# Altium integrated library NSC Interface.IntLib: 1288 symbols (part 7 of 45)
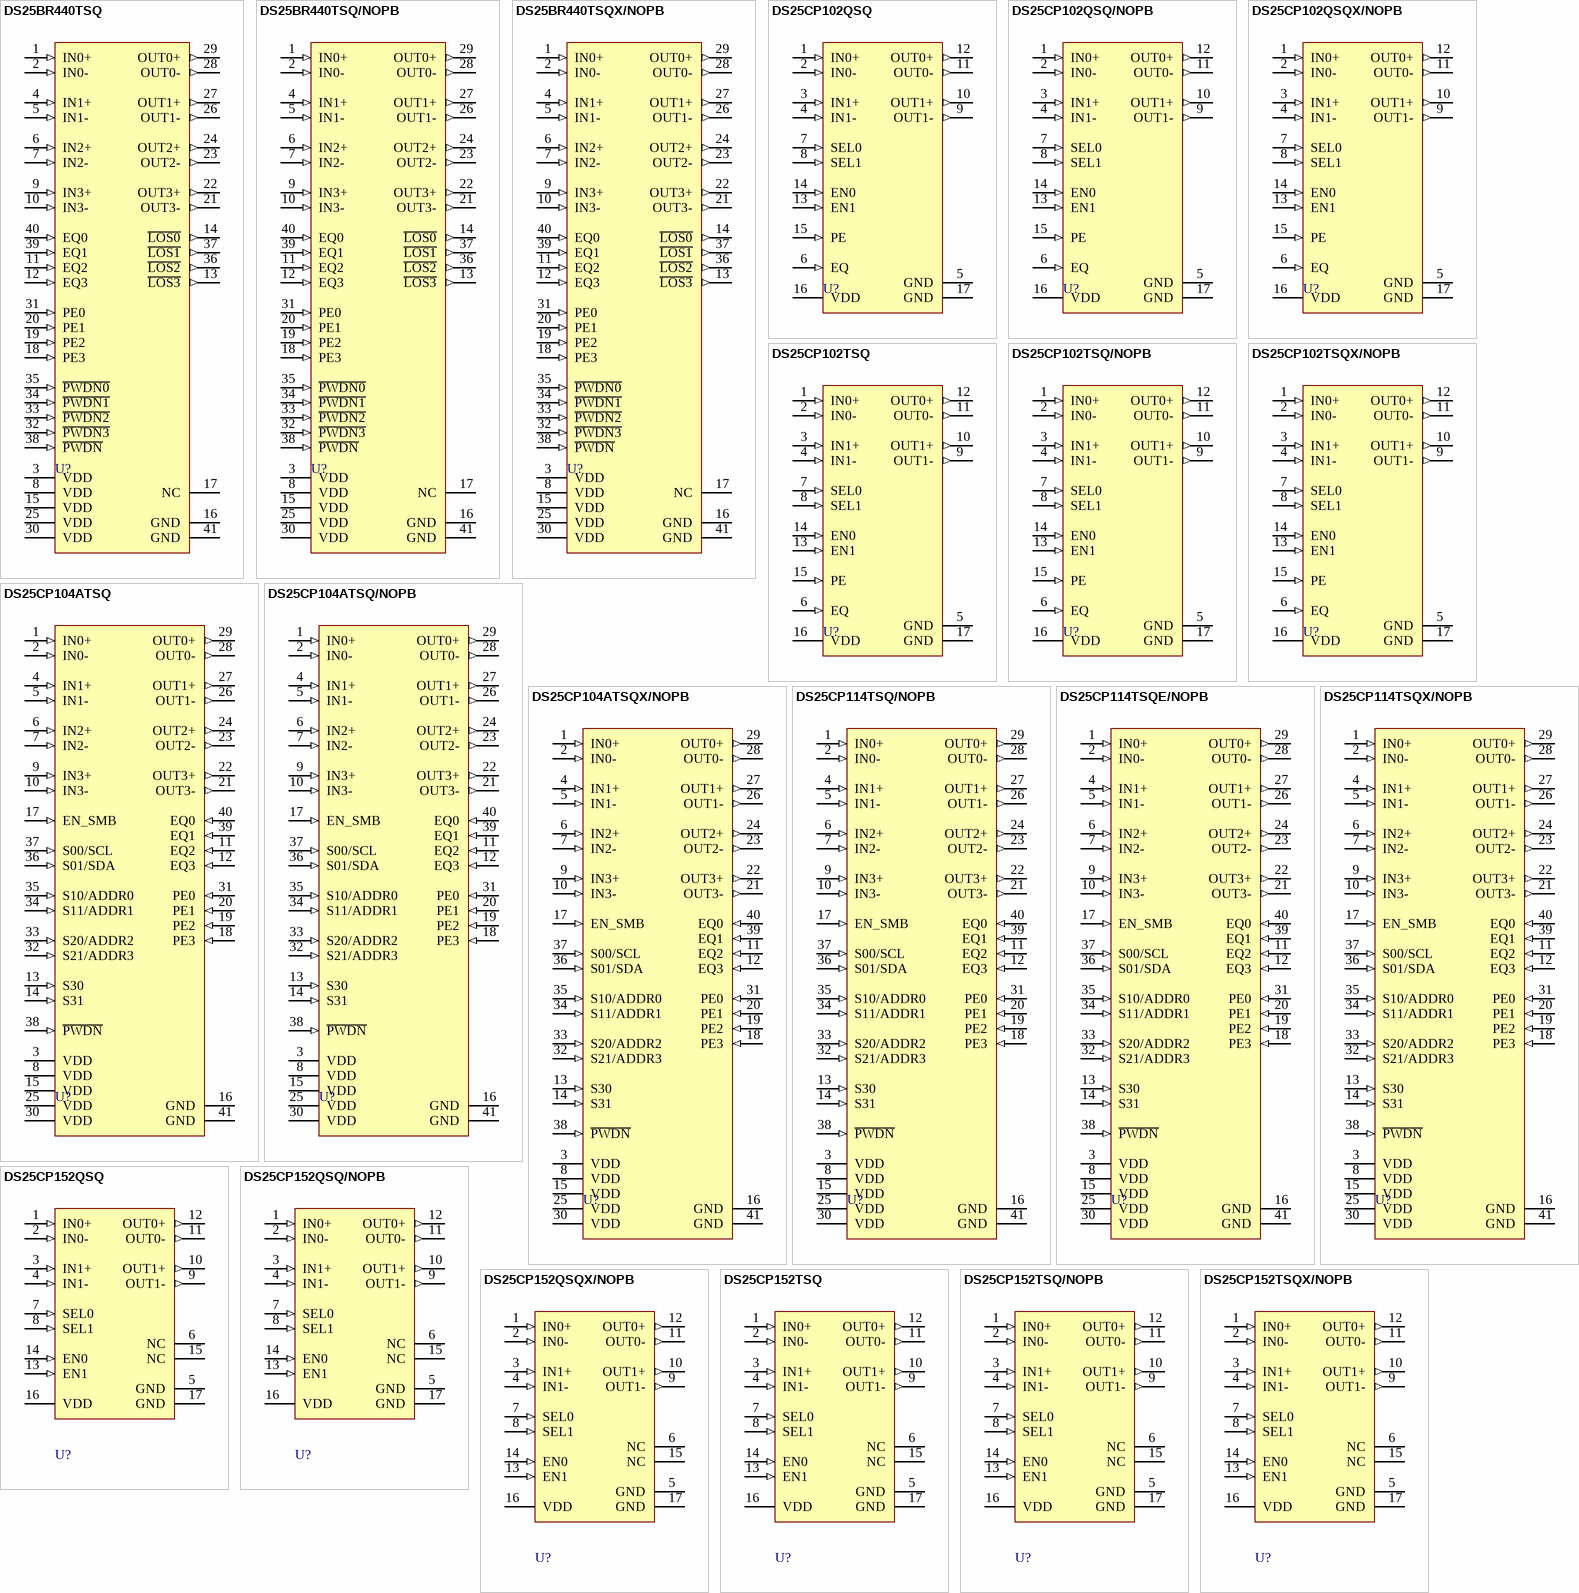
[diagram p118: symbols DS25BR440TSQ to DS25CP152TSQX/NOPB]

## DS25CP114TSQX/NOPB
designator U?
3.125 Gbps 4x4 LVDS Crosspoint Switch with Transmit Pre-Emphasis and Receive Equalization, 40 pin LLP; PartNumber: DS25CP114TSQX/NOPB; Manufacturer: National Semiconductor; PackageTopMarking: NS*UZXYTTE#*2CP114SQ; PowerWise: Y; CompType: Interface IC; Published: 16-Nov-2010; DatasheetVersion: May-2009; PackageVersion: revB, Mar-2004; PackageReference: SQA40A; Publisher: Altium Limited; PackageDescription: LLP, Plastic, Quad, 6 x 6 x 0.8mm Body, 40 Lead, 0.5mm Pitch, No Pullback; Supplier 1: Digi-Key; Supplier Part Number 1: DS25CP114TSQX/NOPB-ND; RoHS: Y; PinCount: 40; ComponentLink1Description: DS25CP114 Datasheet; ComponentLink1URL: http://www.national.com/ds/DS/DS25CP114.pdf; ComponentLink2Description: DS25CP114 Web Page; ComponentLink2URL: http://www.national.com/pf/DS/DS25CP114.html; ComponentLink3Description: SQA40A Package Page; ComponentLink3URL: http://www.national.com/packaging/folders/sqa40a.html
footprint SQA40A (QFN, 40-Leads, Body 6x6mm, Pitch 0.5mm, NSC Recommended)
pins: 1 IN0+ (in), 2 IN0- (in), 3 VDD (power), 4 IN1+ (in), 5 IN1- (in), 6 IN2+ (in), 7 IN2- (in), 8 VDD (power), 9 IN3+ (in), 10 IN3- (in), 11 EQ2 (in), 12 EQ3 (in), 13 S30 (in), 14 S31 (in), 15 VDD (power), 16 GND (power), 17 EN_SMB (in), 18 PE3 (in), 19 PE2 (in), 20 PE1 (in), 21 OUT3- (out), 22 OUT3+ (out), 23 OUT2- (out), 24 OUT2+ (out), 25 VDD (power), 26 OUT1- (out), 27 OUT1+ (out), 28 OUT0- (out), 29 OUT0+ (out), 30 VDD (power), 31 PE0 (in), 32 S21/ADDR3 (in), 33 S20/ADDR2 (in), 34 S11/ADDR1 (in), 35 S10/ADDR0 (in), 36 S01/SDA (in), 37 S00/SCL (in), 38 ~{PWDN} (in), 39 EQ1 (in), 40 EQ0 (in), 41 GND (power)

## DS25CP152QSQ
designator U?
Automotive 3.125 Gbps LVDS 2x2 Crosspoint Switch, 16-pin LLP; PartNumber: DS25CP152QSQ; Manufacturer: National Semiconductor; PackageTopMarking: NS*UZXYTT*2C152QS; PowerWise: Y; CompType: Interface IC; Published: 4-Dec-2008; DatasheetVersion: Jul-2008; PackageVersion: revA, Oct-2003; PackageReference: SQA16A; Publisher: Altium Limited; PackageDescription: LLP, Plastic, Quad, 4 x 4 x 0.8mm Body, 16 Lead, 0.5mm Pitch, No Pullback; RoHS: Y; PinCount: 16; ComponentLink1Description: DS25CP152Q Datasheet; ComponentLink1URL: http://www.national.com/ds/DS/DS25CP152Q.pdf; ComponentLink2Description: DS25CP152Q Web Page; ComponentLink2URL: http://www.national.com/pf/DS/DS25CP152Q.html; ComponentLink3Description: SQA16A Package Page; ComponentLink3URL: http://www.national.com/packaging/folders/sqa16a.html
footprint SQA16A (QFN, 16-Leads, Body 4x4mm, Pitch 0.5mm, NSC Recommended)
pins: 1 IN0+ (in), 2 IN0- (in), 3 IN1+ (in), 4 IN1- (in), 5 GND (power), 6 NC, 7 SEL0 (in), 8 SEL1 (in), 9 OUT1- (out), 10 OUT1+ (out), 11 OUT0- (out), 12 OUT0+ (out), 13 EN1 (in), 14 EN0 (in), 15 NC, 16 VDD (power), 17 GND (power)

## DS25CP152QSQ/NOPB
designator U?
Automotive 3.125 Gbps LVDS 2x2 Crosspoint Switch, 16-pin LLP, Pb-Free; PartNumber: DS25CP152QSQ/NOPB; Manufacturer: National Semiconductor; PackageTopMarking: NS*UZXYTT*2C152QS; PowerWise: Y; CompType: Interface IC; Published: 1-Mar-2010; DatasheetVersion: Jul-2008; PackageVersion: revA, Oct-2003; PackageReference: SQA16A; Publisher: Altium Limited; PackageDescription: LLP, Plastic, Quad, 4 x 4 x 0.8mm Body, 16 Lead, 0.5mm Pitch, No Pullback; Supplier 1: Digi-Key; Supplier Part Number 1: DS25CP152QSQTR-ND; Supplier 2: Digi-Key; Supplier Part Number 2: DS25CP152QSQCT-ND; Supplier 3: Digi-Key; Supplier Part Number 3: DS25CP152QSQDKR-ND; RoHS: Y; PinCount: 16; ComponentLink1Description: DS25CP152Q Datasheet; ComponentLink1URL: http://www.national.com/ds/DS/DS25CP152Q.pdf; ComponentLink2Description: DS25CP152Q Web Page; ComponentLink2URL: http://www.national.com/pf/DS/DS25CP152Q.html; ComponentLink3Description: SQA16A Package Page; ComponentLink3URL: http://www.national.com/packaging/folders/sqa16a.html
footprint SQA16A (QFN, 16-Leads, Body 4x4mm, Pitch 0.5mm, NSC Recommended)
pins: 1 IN0+ (in), 2 IN0- (in), 3 IN1+ (in), 4 IN1- (in), 5 GND (power), 6 NC, 7 SEL0 (in), 8 SEL1 (in), 9 OUT1- (out), 10 OUT1+ (out), 11 OUT0- (out), 12 OUT0+ (out), 13 EN1 (in), 14 EN0 (in), 15 NC, 16 VDD (power), 17 GND (power)

## DS25CP152QSQX/NOPB
designator U?
Automotive 3.125 Gbps LVDS 2x2 Crosspoint Switch, 16-pin LLP, Pb-Free; PartNumber: DS25CP152QSQX/NOPB; Manufacturer: National Semiconductor; PackageTopMarking: NS*UZXYTT*2C152QS; PowerWise: Y; CompType: Interface IC; Published: 1-Mar-2010; DatasheetVersion: Jul-2008; PackageVersion: revA, Oct-2003; PackageReference: SQA16A; Publisher: Altium Limited; PackageDescription: LLP, Plastic, Quad, 4 x 4 x 0.8mm Body, 16 Lead, 0.5mm Pitch, No Pullback; Supplier 1: Digi-Key; Supplier Part Number 1: DS25CP152QSQX-ND; RoHS: Y; PinCount: 16; ComponentLink1Description: DS25CP152Q Datasheet; ComponentLink1URL: http://www.national.com/ds/DS/DS25CP152Q.pdf; ComponentLink2Description: DS25CP152Q Web Page; ComponentLink2URL: http://www.national.com/pf/DS/DS25CP152Q.html; ComponentLink3Description: SQA16A Package Page; ComponentLink3URL: http://www.national.com/packaging/folders/sqa16a.html
footprint SQA16A (QFN, 16-Leads, Body 4x4mm, Pitch 0.5mm, NSC Recommended)
pins: 1 IN0+ (in), 2 IN0- (in), 3 IN1+ (in), 4 IN1- (in), 5 GND (power), 6 NC, 7 SEL0 (in), 8 SEL1 (in), 9 OUT1- (out), 10 OUT1+ (out), 11 OUT0- (out), 12 OUT0+ (out), 13 EN1 (in), 14 EN0 (in), 15 NC, 16 VDD (power), 17 GND (power)

## DS25CP152TSQ
designator U?
3.125 Gbps LVDS 2x2 Crosspoint Switch, 16-pin LLP; PartNumber: DS25CP152TSQ; Manufacturer: National Semiconductor; PackageTopMarking: NS*UZXYTT*2C152SQ; PowerWise: Y; CompType: Interface IC; Published: 4-Dec-2008; DatasheetVersion: Mar-2009; PackageVersion: revA, Oct-2003; PackageReference: SQA16A; Publisher: Altium Limited; PackageDescription: LLP, Plastic, Quad, 4 x 4 x 0.8mm Body, 16 Lead, 0.5mm Pitch, No Pullback; Supplier 1: Farnell; Supplier Part Number 1: 1552433; RoHS: Y; PinCount: 16; ComponentLink1Description: DS25CP152 Datasheet; ComponentLink1URL: http://www.national.com/ds/DS/DS25CP152.pdf; ComponentLink2Description: DS25CP152 Web Page; ComponentLink2URL: http://www.national.com/pf/DS/DS25CP152.html; ComponentLink3Description: SQA16A Package Page; ComponentLink3URL: http://www.national.com/packaging/folders/sqa16a.html
footprint SQA16A (QFN, 16-Leads, Body 4x4mm, Pitch 0.5mm, NSC Recommended)
pins: 1 IN0+ (in), 2 IN0- (in), 3 IN1+ (in), 4 IN1- (in), 5 GND (power), 6 NC, 7 SEL0 (in), 8 SEL1 (in), 9 OUT1- (out), 10 OUT1+ (out), 11 OUT0- (out), 12 OUT0+ (out), 13 EN1 (in), 14 EN0 (in), 15 NC, 16 VDD (power), 17 GND (power)

## DS25CP152TSQ/NOPB
designator U?
3.125 Gbps LVDS 2x2 Crosspoint Switch, 16-pin LLP, Pb-Free; PartNumber: DS25CP152TSQ/NOPB; Manufacturer: National Semiconductor; PackageTopMarking: NS*UZXYTT*2C152SQ; PowerWise: Y; CompType: Interface IC; Published: 1-Mar-2010; DatasheetVersion: Mar-2009; PackageVersion: revA, Oct-2003; PackageReference: SQA16A; Publisher: Altium Limited; PackageDescription: LLP, Plastic, Quad, 4 x 4 x 0.8mm Body, 16 Lead, 0.5mm Pitch, No Pullback; Supplier 1: Digi-Key; Supplier Part Number 1: DS25CP152TSQTR-ND; Supplier 2: Digi-Key; Supplier Part Number 2: DS25CP152TSQCT-ND; Supplier 3: Digi-Key; Supplier Part Number 3: DS25CP152TSQDKR-ND; Supplier 4: Farnell; Supplier Part Number 4: 1555089; RoHS: Y; PinCount: 16; ComponentLink1Description: DS25CP152 Datasheet; ComponentLink1URL: http://www.national.com/ds/DS/DS25CP152.pdf; ComponentLink2Description: DS25CP152 Web Page; ComponentLink2URL: http://www.national.com/pf/DS/DS25CP152.html; ComponentLink3Description: SQA16A Package Page; ComponentLink3URL: http://www.national.com/packaging/folders/sqa16a.html
footprint SQA16A (QFN, 16-Leads, Body 4x4mm, Pitch 0.5mm, NSC Recommended)
pins: 1 IN0+ (in), 2 IN0- (in), 3 IN1+ (in), 4 IN1- (in), 5 GND (power), 6 NC, 7 SEL0 (in), 8 SEL1 (in), 9 OUT1- (out), 10 OUT1+ (out), 11 OUT0- (out), 12 OUT0+ (out), 13 EN1 (in), 14 EN0 (in), 15 NC, 16 VDD (power), 17 GND (power)

## DS25CP152TSQX/NOPB
designator U?
3.125 Gbps LVDS 2x2 Crosspoint Switch, 16-pin LLP, Pb-Free; PartNumber: DS25CP152TSQX/NOPB; Manufacturer: National Semiconductor; PackageTopMarking: NS*UZXYTT*2C152SQ; PowerWise: Y; CompType: Interface IC; Published: 1-Mar-2010; DatasheetVersion: Mar-2009; PackageVersion: revA, Oct-2003; PackageReference: SQA16A; Publisher: Altium Limited; PackageDescription: LLP, Plastic, Quad, 4 x 4 x 0.8mm Body, 16 Lead, 0.5mm Pitch, No Pullback; RoHS: Y; PinCount: 16; ComponentLink1Description: DS25CP152 Datasheet; ComponentLink1URL: http://www.national.com/ds/DS/DS25CP152.pdf; ComponentLink2Description: DS25CP152 Web Page; ComponentLink2URL: http://www.national.com/pf/DS/DS25CP152.html; ComponentLink3Description: SQA16A Package Page; ComponentLink3URL: http://www.national.com/packaging/folders/sqa16a.html
footprint SQA16A (QFN, 16-Leads, Body 4x4mm, Pitch 0.5mm, NSC Recommended)
pins: 1 IN0+ (in), 2 IN0- (in), 3 IN1+ (in), 4 IN1- (in), 5 GND (power), 6 NC, 7 SEL0 (in), 8 SEL1 (in), 9 OUT1- (out), 10 OUT1+ (out), 11 OUT0- (out), 12 OUT0+ (out), 13 EN1 (in), 14 EN0 (in), 15 NC, 16 VDD (power), 17 GND (power)

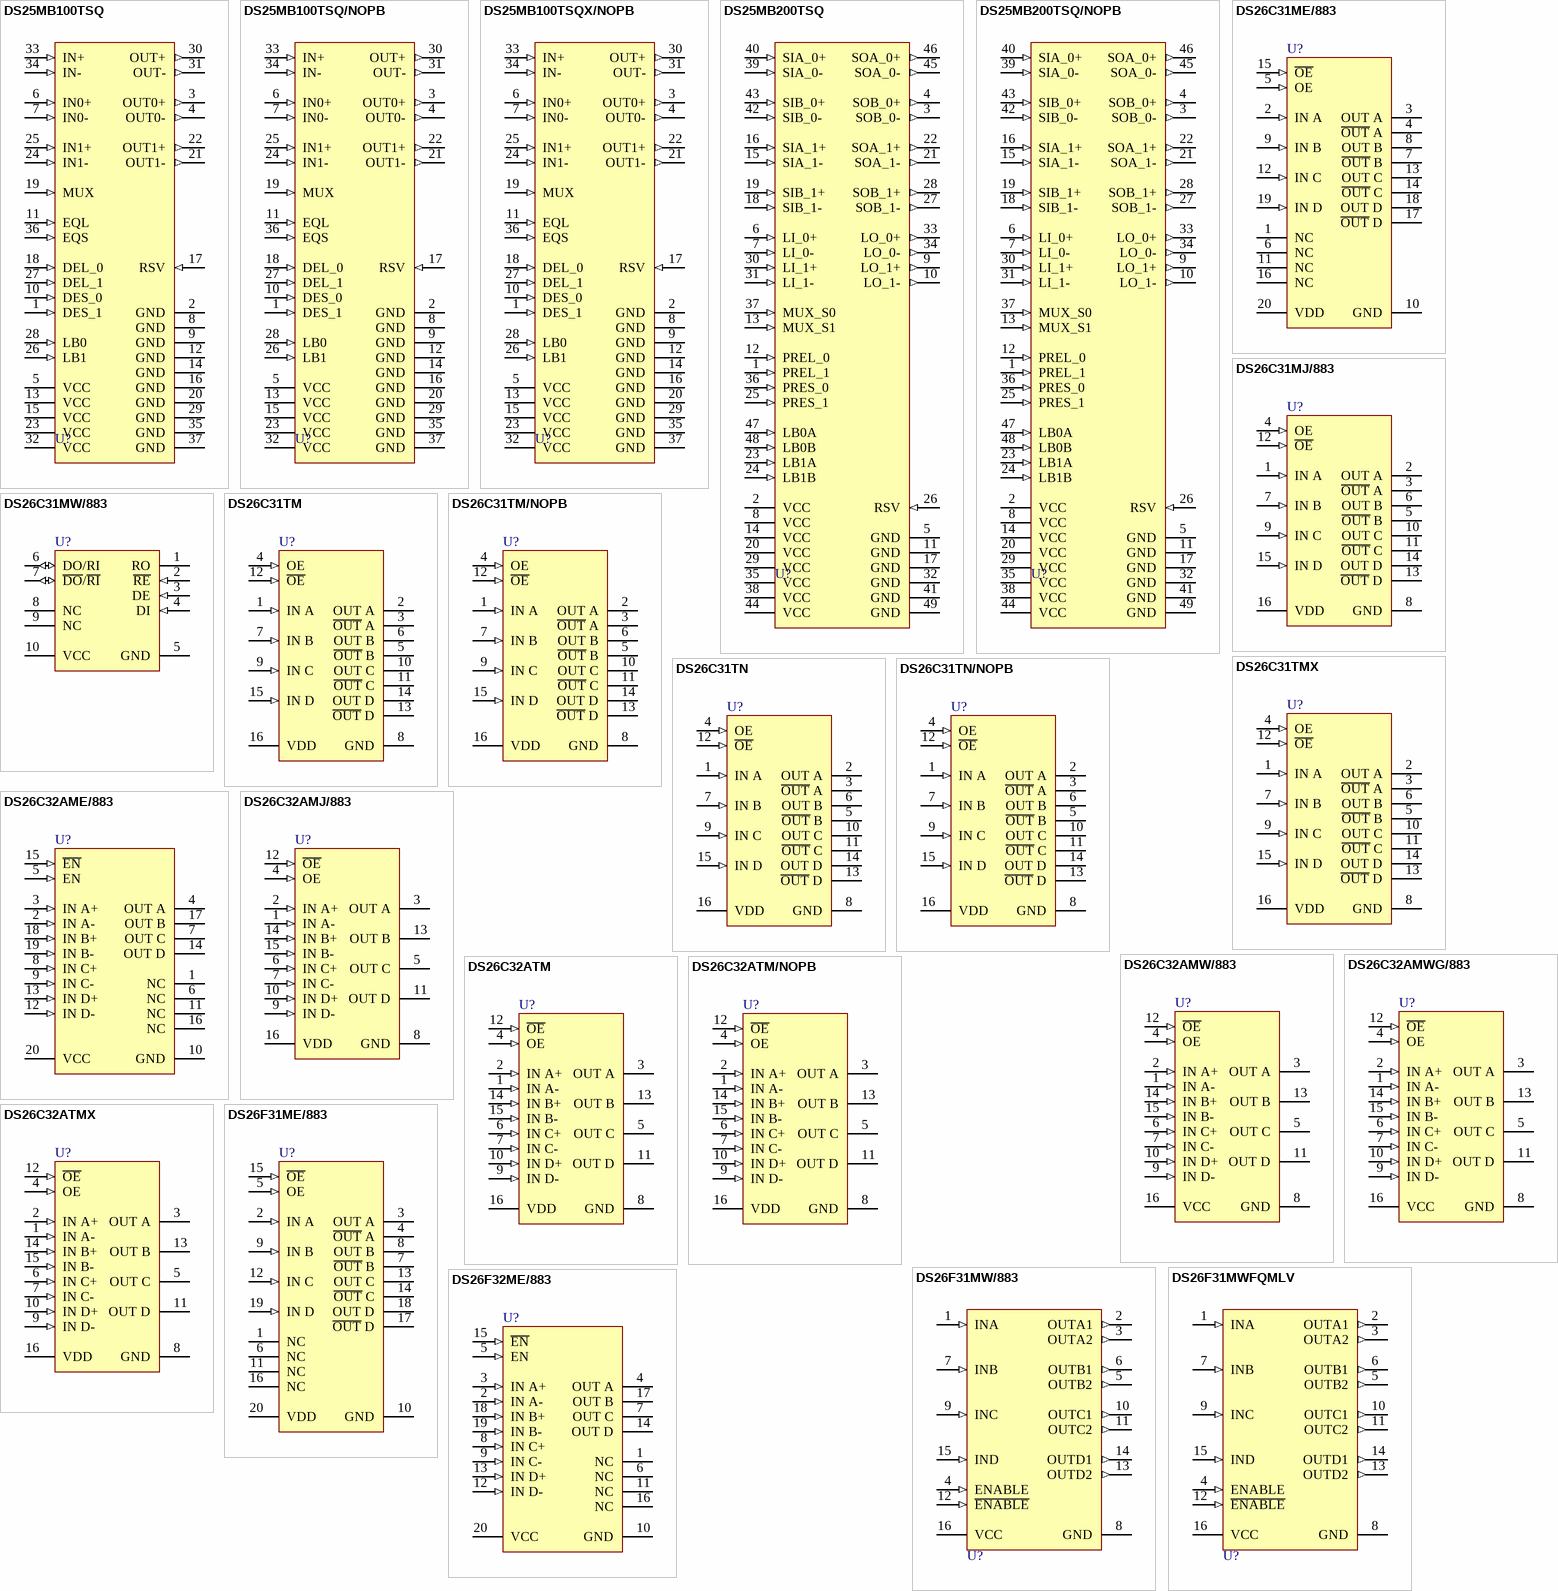
[diagram p18: symbols DS25MB100TSQ to DS26F32ME/883]

## DS25MB100TSQ
designator U?
2.5 Gbps 2:1/1:2 CML Mux/Buffer with Transmit De-Emphasis and Receive Equalization, 36-pin LLP; PartNumber: DS25MB100TSQ; Manufacturer: National Semiconductor; PackageTopMarking: NS*UZXYTT*25MB100; PowerWise: N; CompType: Interface IC; Published: 4-Dec-2008; DatasheetVersion: Feb-2009; PackageVersion: revA, Jun-2003; PackageReference: SQA36A; Publisher: Altium Limited; PackageDescription: LLP, Plastic, Quad, 6 x 6 x 0.8mm Body, 36 Lead, 0.5mm Pitch, No Pullback; RoHS: Y; PinCount: 36; ComponentLink1Description: DS25MB100 Datasheet; ComponentLink1URL: http://www.national.com/ds/DS/DS25MB100.pdf; ComponentLink2Description: DS25MB100 Web Page; ComponentLink2URL: http://www.national.com/pf/DS/DS25MB100.html; ComponentLink3Description: SQA36A Package Page; ComponentLink3URL: http://www.national.com/packaging/folders/sqa36a.html
footprint SQA36A (QFN, 36-Leads, Body 6x6mm, Pitch 0.5mm, NSC Recommended)
pins: 1 DES_1 (in), 2 GND (power), 3 OUT0+ (out), 4 OUT0- (out), 5 VCC (power), 6 IN0+ (in), 7 IN0- (in), 8 GND (power), 9 GND (power), 10 DES_0 (in), 11 EQL (in), 12 GND (power), 13 VCC (power), 14 GND (power), 15 VCC (power), 16 GND (power), 17 RSV (in), 18 DEL_0 (in), 19 MUX (in), 20 GND (power), 21 OUT1- (out), 22 OUT1+ (out), 23 VCC (power), 24 IN1- (in), 25 IN1+ (in), 26 LB1 (in), 27 DEL_1 (in), 28 LB0 (in), 29 GND (power), 30 OUT+ (out), 31 OUT- (out), 32 VCC (power), 33 IN+ (in), 34 IN- (in), 35 GND (power), 36 EQS (in), 37 GND (power)

## DS25MB100TSQ/NOPB
designator U?
2.5 Gbps 2:1/1:2 CML Mux/Buffer with Transmit Pre-Emphasis and Receive Equalization, 36-pin LLP, Pb-Free; PartNumber: DS25MB100TSQ/NOPB; Manufacturer: National Semiconductor; PackageTopMarking: NS*UZXYTTE#*25MB100; PowerWise: N; CompType: Interface IC; Published: 1-Mar-2010; DatasheetVersion: Feb-2009; PackageVersion: revA, Jun-2003; PackageReference: SQA36A; Publisher: Altium Limited; PackageDescription: LLP, Plastic, Quad, 6 x 6 x 0.8mm Body, 36 Lead, 0.5mm Pitch, No Pullback; Supplier 1: Digi-Key; Supplier Part Number 1: DS25MB100TSQTR-ND; Supplier 2: Digi-Key; Supplier Part Number 2: DS25MB100TSQCT-ND; Supplier 3: Digi-Key; Supplier Part Number 3: DS25MB100TSQDKR-ND; RoHS: Y; PinCount: 36; ComponentLink1Description: DS25MB100 Datasheet; ComponentLink1URL: http://www.national.com/ds/DS/DS25MB100.pdf; ComponentLink2Description: DS25MB100 Web Page; ComponentLink2URL: http://www.national.com/pf/DS/DS25MB100.html; ComponentLink3Description: SQA36A Package Page; ComponentLink3URL: http://www.national.com/packaging/folders/sqa36a.html
footprint SQA36A (QFN, 36-Leads, Body 6x6mm, Pitch 0.5mm, NSC Recommended)
pins: 1 DES_1 (in), 2 GND (power), 3 OUT0+ (out), 4 OUT0- (out), 5 VCC (power), 6 IN0+ (in), 7 IN0- (in), 8 GND (power), 9 GND (power), 10 DES_0 (in), 11 EQL (in), 12 GND (power), 13 VCC (power), 14 GND (power), 15 VCC (power), 16 GND (power), 17 RSV (in), 18 DEL_0 (in), 19 MUX (in), 20 GND (power), 21 OUT1- (out), 22 OUT1+ (out), 23 VCC (power), 24 IN1- (in), 25 IN1+ (in), 26 LB1 (in), 27 DEL_1 (in), 28 LB0 (in), 29 GND (power), 30 OUT+ (out), 31 OUT- (out), 32 VCC (power), 33 IN+ (in), 34 IN- (in), 35 GND (power), 36 EQS (in), 37 GND (power)

## DS25MB100TSQX/NOPB
designator U?
2.5 Gbps 2:1/1:2 CML Mux/Buffer with Transmit Pre-Emphasis and Receive Equalization, 36-pin LLP, Pb-Free; PartNumber: DS25MB100TSQX/NOPB; Manufacturer: National Semiconductor; PackageTopMarking: NS*UZXYTTE#*25MB100; PowerWise: N; CompType: Interface IC; Published: 1-Mar-2010; DatasheetVersion: Feb-2009; PackageVersion: revA, Jun-2003; PackageReference: SQA36A; Publisher: Altium Limited; PackageDescription: LLP, Plastic, Quad, 6 x 6 x 0.8mm Body, 36 Lead, 0.5mm Pitch, No Pullback; Supplier 1: Digi-Key; Supplier Part Number 1: DS25MB100TSQX-ND; RoHS: Y; PinCount: 36; ComponentLink1Description: DS25MB100 Datasheet; ComponentLink1URL: http://www.national.com/ds/DS/DS25MB100.pdf; ComponentLink2Description: DS25MB100 Web Page; ComponentLink2URL: http://www.national.com/pf/DS/DS25MB100.html; ComponentLink3Description: SQA36A Package Page; ComponentLink3URL: http://www.national.com/packaging/folders/sqa36a.html
footprint SQA36A (QFN, 36-Leads, Body 6x6mm, Pitch 0.5mm, NSC Recommended)
pins: 1 DES_1 (in), 2 GND (power), 3 OUT0+ (out), 4 OUT0- (out), 5 VCC (power), 6 IN0+ (in), 7 IN0- (in), 8 GND (power), 9 GND (power), 10 DES_0 (in), 11 EQL (in), 12 GND (power), 13 VCC (power), 14 GND (power), 15 VCC (power), 16 GND (power), 17 RSV (in), 18 DEL_0 (in), 19 MUX (in), 20 GND (power), 21 OUT1- (out), 22 OUT1+ (out), 23 VCC (power), 24 IN1- (in), 25 IN1+ (in), 26 LB1 (in), 27 DEL_1 (in), 28 LB0 (in), 29 GND (power), 30 OUT+ (out), 31 OUT- (out), 32 VCC (power), 33 IN+ (in), 34 IN- (in), 35 GND (power), 36 EQS (in), 37 GND (power)

## DS25MB200TSQ
designator U?
Dual 2.5 Gbps 2:1/1:2 CML Mux/Buffer with Transmit Pre-Emphasis and Receive Equalization, 48-pin LLP; PartNumber: DS25MB200TSQ; Manufacturer: National Semiconductor; PackageTopMarking: NS*UZXYTTE#*25MB200; PowerWise: N; CompType: Interface IC; Published: 4-Dec-2008; DatasheetVersion: Feb-2009; PackageVersion: revA, Jul-2004; PackageReference: SQA48D; Publisher: Altium Limited; PackageDescription: LLP, Quad, 7 x 7 x 0.8mm, 48 Lead, 0.5mm Pitch, 4.1 x 4.1 Exposed Pad; RoHS: N; PinCount: 48; ComponentLink1Description: DS25MB200 Datasheet; ComponentLink1URL: http://www.national.com/ds/DS/DS25MB200.pdf; ComponentLink2Description: DS25MB200 Web Page; ComponentLink2URL: http://www.national.com/pf/DS/DS25MB200.html; ComponentLink3Description: SQA48D Package Page; ComponentLink3URL: http://www.national.com/packaging/folders/sqa48d.html
footprint SQA48D (QFN, 48-Leads, Body 7x7mm, Pitch 0.5mm, NSC Recommended)
pins: 1 PREL_1 (in), 2 VCC (power), 3 SOB_0- (out), 4 SOB_0+ (out), 5 GND (power), 6 LI_0+ (in), 7 LI_0- (in), 8 VCC (power), 9 LO_1+ (out), 10 LO_1- (out), 11 GND (power), 12 PREL_0 (in), 13 MUX_S1 (in), 14 VCC (power), 15 SIA_1- (in), 16 SIA_1+ (in), 17 GND (power), 18 SIB_1- (in), 19 SIB_1+ (in), 20 VCC (power), 21 SOA_1- (out), 22 SOA_1+ (out), 23 LB1A (in), 24 LB1B (in), 25 PRES_1 (in), 26 RSV (in), 27 SOB_1- (out), 28 SOB_1+ (out), 29 VCC (power), 30 LI_1+ (in), 31 LI_1- (in), 32 GND (power), 33 LO_0+ (out), 34 LO_0- (out), 35 VCC (power), 36 PRES_0 (in), 37 MUX_S0 (in), 38 VCC (power), 39 SIA_0- (in), 40 SIA_0+ (in), 41 GND (power), 42 SIB_0- (in), 43 SIB_0+ (in), 44 VCC (power), 45 SOA_0- (out), 46 SOA_0+ (out), 47 LB0A (in), 48 LB0B (in), 49 GND (power)

## DS25MB200TSQ/NOPB
designator U?
Dual 2.5 Gbps 2:1/1:2 CML Mux/Buffer with Transmit Pre-Emphasis and Receive Equalization, 48-pin LLP, Pb-Free; PartNumber: DS25MB200TSQ/NOPB; Manufacturer: National Semiconductor; PackageTopMarking: NS*UZXYTTE#*25MB200; PowerWise: N; CompType: Interface IC; Published: 1-Mar-2010; DatasheetVersion: Feb-2009; PackageVersion: revA, Jul-2004; PackageReference: SQA48D; Publisher: Altium Limited; PackageDescription: LLP, Quad, 7 x 7 x 0.8mm, 48 Lead, 0.5mm Pitch, 4.1 x 4.1 Exposed Pad; Supplier 1: Digi-Key; Supplier Part Number 1: DS25MB200TSQTR-ND; Supplier 2: Digi-Key; Supplier Part Number 2: DS25MB200TSQCT-ND; Supplier 3: Digi-Key; Supplier Part Number 3: DS25MB200TSQDKR-ND; RoHS: Y; PinCount: 48; ComponentLink1Description: DS25MB200 Datasheet; ComponentLink1URL: http://www.national.com/ds/DS/DS25MB200.pdf; ComponentLink2Description: DS25MB200 Web Page; ComponentLink2URL: http://www.national.com/pf/DS/DS25MB200.html; ComponentLink3Description: SQA48D Package Page; ComponentLink3URL: http://www.national.com/packaging/folders/sqa48d.html
footprint SQA48D (QFN, 48-Leads, Body 7x7mm, Pitch 0.5mm, NSC Recommended)
pins: 1 PREL_1 (in), 2 VCC (power), 3 SOB_0- (out), 4 SOB_0+ (out), 5 GND (power), 6 LI_0+ (in), 7 LI_0- (in), 8 VCC (power), 9 LO_1+ (out), 10 LO_1- (out), 11 GND (power), 12 PREL_0 (in), 13 MUX_S1 (in), 14 VCC (power), 15 SIA_1- (in), 16 SIA_1+ (in), 17 GND (power), 18 SIB_1- (in), 19 SIB_1+ (in), 20 VCC (power), 21 SOA_1- (out), 22 SOA_1+ (out), 23 LB1A (in), 24 LB1B (in), 25 PRES_1 (in), 26 RSV (in), 27 SOB_1- (out), 28 SOB_1+ (out), 29 VCC (power), 30 LI_1+ (in), 31 LI_1- (in), 32 GND (power), 33 LO_0+ (out), 34 LO_0- (out), 35 VCC (power), 36 PRES_0 (in), 37 MUX_S0 (in), 38 VCC (power), 39 SIA_0- (in), 40 SIA_0+ (in), 41 GND (power), 42 SIB_0- (in), 43 SIB_0+ (in), 44 VCC (power), 45 SOA_0- (out), 46 SOA_0+ (out), 47 LB0A (in), 48 LB0B (in), 49 GND (power)

## DS26C31ME/883
designator U?
CMOS Quad Tri-State Differential Line Driver, 20-pin LCC; PartNumber: DS26C31ME/883; Manufacturer: National Semiconductor; PackageTopMarking: NS*ZSSXXYYA*DS26C31ME/*883 Q 5962-*9163901M2A; PowerWise: N; CompType: Interface IC; High-Reliability: Y; Published: 4-Dec-2008; DatasheetVersion: Jun-1998; PackageVersion: revF, May-2004; PackageReference: E20A; Publisher: Altium Limited; PackageDescription: Leadless Chip Carrier, Type C, 20 Terminal; RoHS: N; PinCount: 20; Code_JEDEC: MS-004-CB; ComponentLink1Description: DS26C31M Datasheet; ComponentLink1URL: http://www.national.com/ds/DS/DS26C31M.pdf; ComponentLink2Description: DS26C31M Web Page; ComponentLink2URL: http://www.national.com/pf/DS/DS26C31M.html; ComponentLink3Description: E20A Package Page; ComponentLink3URL: http://www.national.com/packaging/folders/e20a.html
footprint E20A_N (Leadless Chip Carrier, 20-Leads, Body 8.9x8.9mm, Pitch 1.27mm, IPC Medium Density)
footprint E20A_L (Leadless Chip Carrier, 20-Leads, Body 8.9x8.9mm, Pitch 1.27mm, IPC High Density)
footprint E20A_M (Leadless Chip Carrier, 20-Leads, Body 8.9x8.9mm, Pitch 1.27mm, IPC Low Density)
pins: 1 NC, 2 IN A (in), 3 OUT A (hiz), 4 ~{OUT} A (hiz), 5 OE (in), 6 NC, 7 ~{OUT} B (hiz), 8 OUT B (hiz), 9 IN B (in), 10 GND (power), 11 NC, 12 IN C (in), 13 OUT C (hiz), 14 ~{OUT} C (hiz), 15 ~{OE} (in), 16 NC, 17 ~{OUT} D (hiz), 18 OUT D (hiz), 19 IN D (in), 20 VDD (power)

## DS26C31MJ/883
designator U?
CMOS Quad Tri-State Differential Line Driver, 16-pin CerDIP; PartNumber: DS26C31MJ/883; Manufacturer: National Semiconductor; PackageTopMarking: NSZSSXXYYA*DS26C31MJ/883 Q*5962-9163901MEA; PowerWise: N; CompType: Interface IC; High-Reliability: Y; Published: 4-Dec-2008; DatasheetVersion: Jun-1998; PackageVersion: revL, Sep-1993; PackageReference: J16A; Publisher: Altium Limited; PackageDescription: Cerdip (J), 16 Lead; RoHS: N; PinCount: 16; ComponentLink1Description: DS26C31M Datasheet; ComponentLink1URL: http://www.national.com/ds/DS/DS26C31M.pdf; ComponentLink2Description: DS26C31M Web Page; ComponentLink2URL: http://www.national.com/pf/DS/DS26C31M.html; ComponentLink3Description: J16A Package Page; ComponentLink3URL: http://www.national.com/packaging/folders/j16a.html
footprint J16A (DIP, 16-Leads, Row Spacing 7.62mm, Pitch 2.54mm, Body 19.56x6.73mm)
pins: 1 IN A (in), 2 OUT A (hiz), 3 ~{OUT} A (hiz), 4 OE (in), 5 ~{OUT} B (hiz), 6 OUT B (hiz), 7 IN B (in), 8 GND (power), 9 IN C (in), 10 OUT C (hiz), 11 ~{OUT} C (hiz), 12 ~{OE} (in), 13 ~{OUT} D (hiz), 14 OUT D (hiz), 15 IN D (in), 16 VDD (power)

## DS26C31MW/883
designator U?
CMOS Quad Tri-State Differential Line Driver, 16-pin CerPACK; PartNumber: DS26C31MW/883; Manufacturer: National Semiconductor; PackageTopMarking: NSZSSXXYYA*DS26C31MW*/883 5962-*9163901MFA*Q; PowerWise: N; CompType: Interface IC; High-Reliability: Y; Published: 29-May-2009; DatasheetVersion: Jun-1998; PackageVersion: revT, Jul-2005; PackageReference: W16A; Publisher: Altium Limited; PackageDescription: Cerpack, .390 x .250 x .074in Body, 16 Lead, .050in Pitch; RoHS: N; PinCount: 16; Code_JEDEC: MO-092-AC; ComponentLink1Description: DS26C31M Datasheet; ComponentLink1URL: http://www.national.com/ds/DS/DS26C31M.pdf; ComponentLink2Description: DS26C31M Web Page; ComponentLink2URL: http://www.national.com/pf/DS/DS26C31M.html; ComponentLink3Description: W16A Package Page; ComponentLink3URL: http://www.national.com/packaging/folders/w16a.html
footprint W16A (DFP; 16 Leads; Body 9.9 x 7.6 mm (LxW max); Pitch 1.27 mm)
pins: 1 RO (hiz), 2 ~{RE} (in), 3 DE (in), 4 DI (in), 5 GND (power), 6 DO/RI (io), 7 ~{DO}/~{RI} (io), 8 NC, 9 NC, 10 VCC (power)

## DS26C31TM
designator U?
CMOS Quad Tri-State Differential Line Driver, 16-pin Narrow SOIC; PartNumber: DS26C31TM; Manufacturer: National Semiconductor; PackageTopMarking: NSUZXYTTE#*DS26C31TM; PowerWise: N; CompType: Interface IC; Published: 4-Dec-2008; DatasheetVersion: Jun-1998; PackageVersion: revJ, Aug-1995; PackageReference: M16A; Publisher: Altium Limited; PackageDescription: Molded Package, SO, .150in Wide, 16 Lead; Supplier 1: Farnell; Supplier Part Number 1: 9490060; RoHS: N; PinCount: 16; Code_JEDEC: MS-012-AC; Code_IPC: SOIC127P600-16; ComponentLink1Description: DS26C31T Datasheet; ComponentLink1URL: http://www.national.com/ds/DS/DS26C31T.pdf; ComponentLink2Description: DS26C31T Web Page; ComponentLink2URL: http://www.national.com/pf/DS/DS26C31T.html; ComponentLink3Description: M16A Package Page; ComponentLink3URL: http://www.national.com/packaging/folders/m16a.html
footprint M16A_N (SOIC, 16-Leads, Body 9.9x3.9mm, Pitch 1.27mm, IPC Medium Density)
footprint M16A_L (SOIC, 16-Leads, Body 9.9x3.9mm, Pitch 1.27mm, IPC High Density)
footprint M16A_M (SOIC, 16-Leads, Body 9.9x3.9mm, Pitch 1.27mm, IPC Low Density)
pins: 1 IN A (in), 2 OUT A (hiz), 3 ~{OUT} A (hiz), 4 OE (in), 5 ~{OUT} B (hiz), 6 OUT B (hiz), 7 IN B (in), 8 GND (power), 9 IN C (in), 10 OUT C (hiz), 11 ~{OUT} C (hiz), 12 ~{OE} (in), 13 ~{OUT} D (hiz), 14 OUT D (hiz), 15 IN D (in), 16 VDD (power)

## DS26C31TM/NOPB
designator U?
CMOS Quad Tri-State Differential Line Drivers, 16-pin Narrow SOIC, Pb-Free; PartNumber: DS26C31TM/NOPB; Manufacturer: National Semiconductor; PackageTopMarking: NSUZXYTTE#*DS26C31TM; PowerWise: N; CompType: Interface IC; Published: 1-Mar-2010; DatasheetVersion: Jun-1998; PackageVersion: revJ, Aug-1995; PackageReference: M16A; Publisher: Altium Limited; PackageDescription: Molded Package, SO, .150in Wide, 16 Lead; Supplier 1: Digi-Key; Supplier Part Number 1: DS26C31TM-ND; Supplier 2: Farnell; Supplier Part Number 2: 1468967; RoHS: Y; PinCount: 16; Code_JEDEC: MS-012-AC; Code_IPC: SOIC127P600-16; ComponentLink1Description: DS26C31T Datasheet; ComponentLink1URL: http://www.national.com/ds/DS/DS26C31T.pdf; ComponentLink2Description: DS26C31T Web Page; ComponentLink2URL: http://www.national.com/pf/DS/DS26C31T.html; ComponentLink3Description: M16A Package Page; ComponentLink3URL: http://www.national.com/packaging/folders/m16a.html
footprint M16A_N (SOIC, 16-Leads, Body 9.9x3.9mm, Pitch 1.27mm, IPC Medium Density)
footprint M16A_L (SOIC, 16-Leads, Body 9.9x3.9mm, Pitch 1.27mm, IPC High Density)
footprint M16A_M (SOIC, 16-Leads, Body 9.9x3.9mm, Pitch 1.27mm, IPC Low Density)
pins: 1 IN A (in), 2 OUT A (hiz), 3 ~{OUT} A (hiz), 4 OE (in), 5 ~{OUT} B (hiz), 6 OUT B (hiz), 7 IN B (in), 8 GND (power), 9 IN C (in), 10 OUT C (hiz), 11 ~{OUT} C (hiz), 12 ~{OE} (in), 13 ~{OUT} D (hiz), 14 OUT D (hiz), 15 IN D (in), 16 VDD (power)

## DS26C31TMX
designator U?
CMOS Quad Tri-State Differential Line Drivers, 16-pin Narrow SOIC; PartNumber: DS26C31TMX; Manufacturer: National Semiconductor; PackageTopMarking: NSUZXYTTE#*DS26C31TM; PowerWise: N; CompType: Interface IC; Published: 1-Mar-2010; DatasheetVersion: Jun-1998; PackageVersion: revJ, Aug-1995; PackageReference: M16A; Publisher: Altium Limited; PackageDescription: Molded Package, SO, .150in Wide, 16 Lead; RoHS: N; PinCount: 16; Code_JEDEC: MS-012-AC; Code_IPC: SOIC127P600-16; ComponentLink1Description: DS26C31T Datasheet; ComponentLink1URL: http://www.national.com/ds/DS/DS26C31T.pdf; ComponentLink2Description: DS26C31T Web Page; ComponentLink2URL: http://www.national.com/pf/DS/DS26C31T.html; ComponentLink3Description: M16A Package Page; ComponentLink3URL: http://www.national.com/packaging/folders/m16a.html
footprint M16A_N (SOIC, 16-Leads, Body 9.9x3.9mm, Pitch 1.27mm, IPC Medium Density)
footprint M16A_L (SOIC, 16-Leads, Body 9.9x3.9mm, Pitch 1.27mm, IPC High Density)
footprint M16A_M (SOIC, 16-Leads, Body 9.9x3.9mm, Pitch 1.27mm, IPC Low Density)
pins: 1 IN A (in), 2 OUT A (hiz), 3 ~{OUT} A (hiz), 4 OE (in), 5 ~{OUT} B (hiz), 6 OUT B (hiz), 7 IN B (in), 8 GND (power), 9 IN C (in), 10 OUT C (hiz), 11 ~{OUT} C (hiz), 12 ~{OE} (in), 13 ~{OUT} D (hiz), 14 OUT D (hiz), 15 IN D (in), 16 VDD (power)

## DS26C31TN
designator U?
CMOS Quad Tri-State Differential Line Driver, 16-pin MDIP; PartNumber: DS26C31TN; Manufacturer: National Semiconductor; PackageTopMarking: NSUZXYYTTE#*DS26C31TN; PowerWise: N; CompType: Interface IC; Published: 4-Dec-2008; DatasheetVersion: Jun-1998; PackageVersion: revG, May-2006; PackageReference: N16E; Publisher: Altium Limited; PackageDescription: MDIP, .750 x .250 x .130in, 16 Lead, .100in Pitch; Supplier 1: Farnell; Supplier Part Number 1: 9487840; RoHS: N; PinCount: 16; Code_JEDEC: MS-001-BB; ComponentLink1Description: DS26C31T Datasheet; ComponentLink1URL: http://www.national.com/ds/DS/DS26C31T.pdf; ComponentLink2Description: DS26C31T Web Page; ComponentLink2URL: http://www.national.com/pf/DS/DS26C31T.html; ComponentLink3Description: N16E Package Page; ComponentLink3URL: http://www.national.com/packaging/folders/n16e.html
footprint N16E (DIP, 16-Leads, Row Spacing 7.62mm, Pitch 2.54mm, Body 19.3x6.35mm)
pins: 1 IN A (in), 2 OUT A (hiz), 3 ~{OUT} A (hiz), 4 OE (in), 5 ~{OUT} B (hiz), 6 OUT B (hiz), 7 IN B (in), 8 GND (power), 9 IN C (in), 10 OUT C (hiz), 11 ~{OUT} C (hiz), 12 ~{OE} (in), 13 ~{OUT} D (hiz), 14 OUT D (hiz), 15 IN D (in), 16 VDD (power)

## DS26C31TN/NOPB
designator U?
CMOS Quad Tri-State Differential Line Drivers, 16-pin MDIP, Pb-Free; PartNumber: DS26C31TN/NOPB; Manufacturer: National Semiconductor; PackageTopMarking: NSUZXYYTTE#*DS26C31TN; PowerWise: N; CompType: Interface IC; Published: 1-Mar-2010; DatasheetVersion: Jun-1998; PackageVersion: revG, May-2006; PackageReference: N16E; Publisher: Altium Limited; PackageDescription: MDIP, .750 x .250 x .130in, 16 Lead, .100in Pitch; Supplier 1: Digi-Key; Supplier Part Number 1: DS26C31TN-ND; Supplier 2: Farnell; Supplier Part Number 2: 1149939; RoHS: Y; PinCount: 16; Code_JEDEC: MS-001-BB; ComponentLink1Description: DS26C31T Datasheet; ComponentLink1URL: http://www.national.com/ds/DS/DS26C31T.pdf; ComponentLink2Description: DS26C31T Web Page; ComponentLink2URL: http://www.national.com/pf/DS/DS26C31T.html; ComponentLink3Description: N16E Package Page; ComponentLink3URL: http://www.national.com/packaging/folders/n16e.html
footprint N16E (DIP, 16-Leads, Row Spacing 7.62mm, Pitch 2.54mm, Body 19.3x6.35mm)
pins: 1 IN A (in), 2 OUT A (hiz), 3 ~{OUT} A (hiz), 4 OE (in), 5 ~{OUT} B (hiz), 6 OUT B (hiz), 7 IN B (in), 8 GND (power), 9 IN C (in), 10 OUT C (hiz), 11 ~{OUT} C (hiz), 12 ~{OE} (in), 13 ~{OUT} D (hiz), 14 OUT D (hiz), 15 IN D (in), 16 VDD (power)

## DS26C32AME/883
designator U?
CMOS Quad Differential Line Receiver, 20-pin LCC; PartNumber: DS26C32AME/883; Manufacturer: National Semiconductor; PackageTopMarking: NS Q*ZSSXXYYA*DS26C32AME*/883 5962-*9164001M2A; PowerWise: N; CompType: Interface IC; High-Reliability: Y; Published: 4-Dec-2008; DatasheetVersion: Jun-1998; PackageVersion: revF, May-2004; PackageReference: E20A; Publisher: Altium Limited; PackageDescription: Leadless Chip Carrier, Type C, 20 Terminal; RoHS: N; PinCount: 20; Code_JEDEC: MS-004-CB; ComponentLink1Description: DS26C32AM Datasheet; ComponentLink1URL: http://www.national.com/ds/DS/DS26C32AM.pdf; ComponentLink2Description: DS26C32AM Web Page; ComponentLink2URL: http://www.national.com/pf/DS/DS26C32AM.html; ComponentLink3Description: E20A Package Page; ComponentLink3URL: http://www.national.com/packaging/folders/e20a.html
footprint E20A_N (Leadless Chip Carrier, 20-Leads, Body 8.9x8.9mm, Pitch 1.27mm, IPC Medium Density)
footprint E20A_L (Leadless Chip Carrier, 20-Leads, Body 8.9x8.9mm, Pitch 1.27mm, IPC High Density)
footprint E20A_M (Leadless Chip Carrier, 20-Leads, Body 8.9x8.9mm, Pitch 1.27mm, IPC Low Density)
pins: 1 NC, 2 IN A- (in), 3 IN A+ (in), 4 OUT A (hiz), 5 EN (in), 6 NC, 7 OUT C (hiz), 8 IN C+ (in), 9 IN C- (in), 10 GND (power), 11 NC, 12 IN D- (in), 13 IN D+ (in), 14 OUT D (hiz), 15 ~{EN} (in), 16 NC, 17 OUT B (hiz), 18 IN B+ (in), 19 IN B- (in), 20 VCC (power)

## DS26C32AMJ/883
designator U?
CMOS Quad Differential Line Receiver, 16-pin CerDIP; PartNumber: DS26C32AMJ/883; Manufacturer: National Semiconductor; PackageTopMarking: NSZSSXXYYA*DS26C32AMJ/883 Q*5962-9164001MEA; PowerWise: N; CompType: Interface IC; High-Reliability: Y; Published: 4-Dec-2008; DatasheetVersion: Jun-1998; PackageVersion: revL, Sep-1993; PackageReference: J16A; Publisher: Altium Limited; PackageDescription: Cerdip (J), 16 Lead; RoHS: N; PinCount: 16; ComponentLink1Description: DS26C32AM Datasheet; ComponentLink1URL: http://www.national.com/ds/DS/DS26C32AM.pdf; ComponentLink2Description: DS26C32AM Web Page; ComponentLink2URL: http://www.national.com/pf/DS/DS26C32AM.html; ComponentLink3Description: J16A Package Page; ComponentLink3URL: http://www.national.com/packaging/folders/j16a.html
footprint J16A (DIP, 16-Leads, Row Spacing 7.62mm, Pitch 2.54mm, Body 19.56x6.73mm)
pins: 1 IN A- (in), 2 IN A+ (in), 3 OUT A (hiz), 4 OE (in), 5 OUT C (hiz), 6 IN C+ (in), 7 IN C- (in), 8 GND (power), 9 IN D- (in), 10 IN D+ (in), 11 OUT D (hiz), 12 ~{OE} (in), 13 OUT B (hiz), 14 IN B+ (in), 15 IN B- (in), 16 VDD (power)

## DS26C32AMW/883
designator U?
CMOS Quad Differential Line Receiver, 16-pin CerPACK; PartNumber: DS26C32AMW/883; Manufacturer: National Semiconductor; PackageTopMarking: NSZSSXXYYA*DS26C32AMW*/883 Q 5962-*9164001MFA; PowerWise: N; CompType: Interface IC; High-Reliability: Y; Published: 29-May-2009; DatasheetVersion: Jun-1998; PackageVersion: revT, Jul-2005; PackageReference: W16A; Publisher: Altium Limited; PackageDescription: Cerpack, .390 x .250 x .074in Body, 16 Lead, .050in Pitch; RoHS: N; PinCount: 16; Code_JEDEC: MO-092-AC; ComponentLink1Description: DS26C32AM Datasheet; ComponentLink1URL: http://www.national.com/ds/DS/DS26C32AM.pdf; ComponentLink2Description: DS26C32AM Web Page; ComponentLink2URL: http://www.national.com/pf/DS/DS26C32AM.html; ComponentLink3Description: W16A Package Page; ComponentLink3URL: http://www.national.com/packaging/folders/w16a.html
footprint W16A (DFP; 16 Leads; Body 9.9 x 7.6 mm (LxW max); Pitch 1.27 mm)
pins: 1 IN A- (in), 2 IN A+ (in), 3 OUT A (hiz), 4 OE (in), 5 OUT C (hiz), 6 IN C+ (in), 7 IN C- (in), 8 GND (power), 9 IN D- (in), 10 IN D+ (in), 11 OUT D (hiz), 12 ~{OE} (in), 13 OUT B (hiz), 14 IN B+ (in), 15 IN B- (in), 16 VCC (power)

## DS26C32AMWG/883
designator U?
CMOS Quad Differential Line Receiver, 16-pin CerPACK; PartNumber: DS26C32AMWG/883; Manufacturer: National Semiconductor; PackageTopMarking: NSZSSXXYYA*DS26C32AMWG/*883 Q 5962*9164001MXA; PowerWise: N; CompType: Interface IC; High-Reliability: Y; Published: 29-May-2009; DatasheetVersion: Jun-1998; PackageVersion: revE, Jul-2007; PackageReference: WG16A; Publisher: Altium Limited; PackageDescription: Cerpack, .390 x .250 x .070in, 16 Lead, .050in Pitch, Gull Wing; RoHS: N; PinCount: 16; ComponentLink1Description: DS26C32AM Datasheet; ComponentLink1URL: http://www.national.com/ds/DS/DS26C32AM.pdf; ComponentLink2Description: DS26C32AM Web Page; ComponentLink2URL: http://www.national.com/pf/DS/DS26C32AM.html; ComponentLink3Description: WG16A Package Page; ComponentLink3URL: http://www.national.com/packaging/folders/wg16a.html
footprint WG16A_N (CERPACK, 16-Leads, Body 9.9x6.5mm, Pitch 1.27mm, IPC Medium Density)
footprint WG16A_L (CERPACK, 16-Leads, Body 9.9x6.5mm, Pitch 1.27mm, IPC High Density)
footprint WG16A_M (CERPACK, 16-Leads, Body 9.9x6.5mm, Pitch 1.27mm, IPC Low Density)
pins: 1 IN A- (in), 2 IN A+ (in), 3 OUT A (hiz), 4 OE (in), 5 OUT C (hiz), 6 IN C+ (in), 7 IN C- (in), 8 GND (power), 9 IN D- (in), 10 IN D+ (in), 11 OUT D (hiz), 12 ~{OE} (in), 13 OUT B (hiz), 14 IN B+ (in), 15 IN B- (in), 16 VCC (power)

## DS26C32ATM
designator U?
CMOS Quad Differential Line Receiver, 16-pin Narrow SOIC; PartNumber: DS26C32ATM; Manufacturer: National Semiconductor; PackageTopMarking: NSUZXYTTE#*DS26C32ATM; PowerWise: N; CompType: Interface IC; Published: 4-Dec-2008; DatasheetVersion: Jun-1998; PackageVersion: revJ, Aug-1995; PackageReference: M16A; Publisher: Altium Limited; PackageDescription: Molded Package, SO, .150in Wide, 16 Lead; Supplier 1: Farnell; Supplier Part Number 1: 9490051; RoHS: N; PinCount: 16; Code_JEDEC: MS-012-AC; Code_IPC: SOIC127P600-16; ComponentLink1Description: DS26C32AT Datasheet; ComponentLink1URL: http://www.national.com/ds/DS/DS26C32AT.pdf; ComponentLink2Description: DS26C32AT Web Page; ComponentLink2URL: http://www.national.com/pf/DS/DS26C32AT.html; ComponentLink3Description: M16A Package Page; ComponentLink3URL: http://www.national.com/packaging/folders/m16a.html
footprint M16A_N (SOIC, 16-Leads, Body 9.9x3.9mm, Pitch 1.27mm, IPC Medium Density)
footprint M16A_L (SOIC, 16-Leads, Body 9.9x3.9mm, Pitch 1.27mm, IPC High Density)
footprint M16A_M (SOIC, 16-Leads, Body 9.9x3.9mm, Pitch 1.27mm, IPC Low Density)
pins: 1 IN A- (in), 2 IN A+ (in), 3 OUT A (hiz), 4 OE (in), 5 OUT C (hiz), 6 IN C+ (in), 7 IN C- (in), 8 GND (power), 9 IN D- (in), 10 IN D+ (in), 11 OUT D (hiz), 12 ~{OE} (in), 13 OUT B (hiz), 14 IN B+ (in), 15 IN B- (in), 16 VDD (power)

## DS26C32ATM/NOPB
designator U?
CMOS Quad Differential Line Receivers, 16-pin Narrow SOIC, Pb-Free; PartNumber: DS26C32ATM/NOPB; Manufacturer: National Semiconductor; PackageTopMarking: NSUZXYTTE#*DS26C32ATM; PowerWise: N; CompType: Interface IC; Published: 1-Mar-2010; DatasheetVersion: Jun-1998; PackageVersion: revJ, Aug-1995; PackageReference: M16A; Publisher: Altium Limited; PackageDescription: Molded Package, SO, .150in Wide, 16 Lead; Supplier 1: Digi-Key; Supplier Part Number 1: DS26C32ATM-ND; Supplier 2: Farnell; Supplier Part Number 2: 1468998; RoHS: Y; PinCount: 16; Code_JEDEC: MS-012-AC; Code_IPC: SOIC127P600-16; ComponentLink1Description: DS26C32AT Datasheet; ComponentLink1URL: http://www.national.com/ds/DS/DS26C32AT.pdf; ComponentLink2Description: DS26C32AT Web Page; ComponentLink2URL: http://www.national.com/pf/DS/DS26C32AT.html; ComponentLink3Description: M16A Package Page; ComponentLink3URL: http://www.national.com/packaging/folders/m16a.html
footprint M16A_N (SOIC, 16-Leads, Body 9.9x3.9mm, Pitch 1.27mm, IPC Medium Density)
footprint M16A_L (SOIC, 16-Leads, Body 9.9x3.9mm, Pitch 1.27mm, IPC High Density)
footprint M16A_M (SOIC, 16-Leads, Body 9.9x3.9mm, Pitch 1.27mm, IPC Low Density)
pins: 1 IN A- (in), 2 IN A+ (in), 3 OUT A (hiz), 4 OE (in), 5 OUT C (hiz), 6 IN C+ (in), 7 IN C- (in), 8 GND (power), 9 IN D- (in), 10 IN D+ (in), 11 OUT D (hiz), 12 ~{OE} (in), 13 OUT B (hiz), 14 IN B+ (in), 15 IN B- (in), 16 VDD (power)

## DS26C32ATMX
designator U?
CMOS Quad Differential Line Receivers, 16-pin Narrow SOIC; PartNumber: DS26C32ATMX; Manufacturer: National Semiconductor; PackageTopMarking: NSUZXYTTE#*DS26C32ATM; PowerWise: N; CompType: Interface IC; Published: 1-Mar-2010; DatasheetVersion: Jun-1998; PackageVersion: revJ, Aug-1995; PackageReference: M16A; Publisher: Altium Limited; PackageDescription: Molded Package, SO, .150in Wide, 16 Lead; RoHS: N; PinCount: 16; Code_JEDEC: MS-012-AC; Code_IPC: SOIC127P600-16; ComponentLink1Description: DS26C32AT Datasheet; ComponentLink1URL: http://www.national.com/ds/DS/DS26C32AT.pdf; ComponentLink2Description: DS26C32AT Web Page; ComponentLink2URL: http://www.national.com/pf/DS/DS26C32AT.html; ComponentLink3Description: M16A Package Page; ComponentLink3URL: http://www.national.com/packaging/folders/m16a.html
footprint M16A_N (SOIC, 16-Leads, Body 9.9x3.9mm, Pitch 1.27mm, IPC Medium Density)
footprint M16A_L (SOIC, 16-Leads, Body 9.9x3.9mm, Pitch 1.27mm, IPC High Density)
footprint M16A_M (SOIC, 16-Leads, Body 9.9x3.9mm, Pitch 1.27mm, IPC Low Density)
pins: 1 IN A- (in), 2 IN A+ (in), 3 OUT A (hiz), 4 OE (in), 5 OUT C (hiz), 6 IN C+ (in), 7 IN C- (in), 8 GND (power), 9 IN D- (in), 10 IN D+ (in), 11 OUT D (hiz), 12 ~{OE} (in), 13 OUT B (hiz), 14 IN B+ (in), 15 IN B- (in), 16 VDD (power)

## DS26F31ME/883
designator U?
Quad High Speed Differential Line Driver, 20-pin LCC; PartNumber: DS26F31ME/883; Manufacturer: National Semiconductor; PackageTopMarking: NS*ZSSXXYYA*DS26F31ME/*883 Q 5962-*7802302M2A; PowerWise: N; CompType: Interface IC; High-Reliability: Y; Published: 4-Dec-2008; DatasheetVersion: May-1999; PackageVersion: revF, May-2004; PackageReference: E20A; Publisher: Altium Limited; PackageDescription: Leadless Chip Carrier, Type C, 20 Terminal; RoHS: N; PinCount: 20; Code_JEDEC: MS-004-CB; ComponentLink1Description: DS26F31M Datasheet; ComponentLink1URL: http://www.national.com/ds/DS/DS26F31MQML.pdf; ComponentLink2Description: DS26F31M Web Page; ComponentLink2URL: http://www.national.com/pf/DS/DS26F31M.html; ComponentLink3Description: E20A Package Page; ComponentLink3URL: http://www.national.com/packaging/folders/e20a.html
footprint E20A_N (Leadless Chip Carrier, 20-Leads, Body 8.9x8.9mm, Pitch 1.27mm, IPC Medium Density)
footprint E20A_L (Leadless Chip Carrier, 20-Leads, Body 8.9x8.9mm, Pitch 1.27mm, IPC High Density)
footprint E20A_M (Leadless Chip Carrier, 20-Leads, Body 8.9x8.9mm, Pitch 1.27mm, IPC Low Density)
pins: 1 NC, 2 IN A (in), 3 OUT A (hiz), 4 ~{OUT} A (hiz), 5 OE (in), 6 NC, 7 ~{OUT} B (hiz), 8 OUT B (hiz), 9 IN B (in), 10 GND (power), 11 NC, 12 IN C (in), 13 OUT C (hiz), 14 ~{OUT} C (hiz), 15 ~{OE} (in), 16 NC, 17 ~{OUT} D (hiz), 18 OUT D (hiz), 19 IN D (in), 20 VDD (power)

## DS26F31MW/883
designator U?
Quad High Speed Differential Line Driver, 16-pin CerPACK; PartNumber: DS26F31MW/883; Manufacturer: National Semiconductor; PackageTopMarking: NSZSSXXYYA*DS26F31MW*/883 5962-*7802302MFA*Q; PowerWise: N; CompType: Interface IC; High-Reliability: Y; Published: 29-May-2009; DatasheetVersion: May-1999; PackageVersion: revT, Jul-2005; PackageReference: W16A; Publisher: Altium Limited; PackageDescription: Cerpack, .390 x .250 x .074in Body, 16 Lead, .050in Pitch; RoHS: N; PinCount: 16; Code_JEDEC: MO-092-AC; ComponentLink1Description: DS26F31M Datasheet; ComponentLink1URL: http://www.national.com/ds/DS/DS26F31MQML.pdf; ComponentLink2Description: DS26F31M Web Page; ComponentLink2URL: http://www.national.com/pf/DS/DS26F31M.html; ComponentLink3Description: W16A Package Page; ComponentLink3URL: http://www.national.com/packaging/folders/w16a.html
footprint W16A (DFP; 16 Leads; Body 9.9 x 7.6 mm (LxW max); Pitch 1.27 mm)
pins: 1 INA (in), 2 OUTA1 (out), 3 OUTA2 (out), 4 ENABLE (in), 5 OUTB2 (out), 6 OUTB1 (out), 7 INB (in), 8 GND (power), 9 INC (in), 10 OUTC1 (out), 11 OUTC2 (out), 12 ~{ENABLE} (in), 13 OUTD2 (out), 14 OUTD1 (out), 15 IND (in), 16 VCC (power)

## DS26F31MWFQMLV
designator U?
Quad High Speed Differential Line Driver, 16-pin CerPACK; PartNumber: DS26F31MWFQMLV; Manufacturer: National Semiconductor; PackageTopMarking: NSZSSXXYYA*DS26F31MWF*QV Q 5962F*7802302VFA; PowerWise: N; CompType: Interface IC; High-Reliability: Y; Published: 29-May-2009; DatasheetVersion: May-1999; PackageVersion: revT, Jul-2005; PackageReference: W16A; Publisher: Altium Limited; PackageDescription: Cerpack, .390 x .250 x .074in Body, 16 Lead, .050in Pitch; RoHS: N; PinCount: 16; Code_JEDEC: MO-092-AC; ComponentLink1Description: DS26F31M Datasheet; ComponentLink1URL: http://www.national.com/ds/DS/DS26F31MQML.pdf; ComponentLink2Description: DS26F31M Web Page; ComponentLink2URL: http://www.national.com/pf/DS/DS26F31M.html; ComponentLink3Description: W16A Package Page; ComponentLink3URL: http://www.national.com/packaging/folders/w16a.html
footprint W16A (DFP; 16 Leads; Body 9.9 x 7.6 mm (LxW max); Pitch 1.27 mm)
pins: 1 INA (in), 2 OUTA1 (out), 3 OUTA2 (out), 4 ENABLE (in), 5 OUTB2 (out), 6 OUTB1 (out), 7 INB (in), 8 GND (power), 9 INC (in), 10 OUTC1 (out), 11 OUTC2 (out), 12 ~{ENABLE} (in), 13 OUTD2 (out), 14 OUTD1 (out), 15 IND (in), 16 VCC (power)

## DS26F32ME/883
designator U?
Quad Differential Line Receiver, 20-pin LCC; PartNumber: DS26F32ME/883; Manufacturer: National Semiconductor; PackageTopMarking: NS*ZSSXXYYA*DS26F32ME/*883 Q 5962-*7802005M2A; PowerWise: N; CompType: Interface IC; High-Reliability: Y; Published: 4-Dec-2008; DatasheetVersion: May-1999; PackageVersion: revF, May-2004; PackageReference: E20A; Publisher: Altium Limited; PackageDescription: Leadless Chip Carrier, Type C, 20 Terminal; RoHS: N; PinCount: 20; Code_JEDEC: MS-004-CB; ComponentLink1Description: DS26F32M Datasheet; ComponentLink1URL: http://www.national.com/ds/DS/DS26F32MQML.pdf; ComponentLink2Description: DS26F32M Web Page; ComponentLink2URL: http://www.national.com/pf/DS/DS26F32M.html; ComponentLink3Description: E20A Package Page; ComponentLink3URL: http://www.national.com/packaging/folders/e20a.html
footprint E20A_N (Leadless Chip Carrier, 20-Leads, Body 8.9x8.9mm, Pitch 1.27mm, IPC Medium Density)
footprint E20A_L (Leadless Chip Carrier, 20-Leads, Body 8.9x8.9mm, Pitch 1.27mm, IPC High Density)
footprint E20A_M (Leadless Chip Carrier, 20-Leads, Body 8.9x8.9mm, Pitch 1.27mm, IPC Low Density)
pins: 1 NC, 2 IN A- (in), 3 IN A+ (in), 4 OUT A (hiz), 5 EN (in), 6 NC, 7 OUT C (hiz), 8 IN C+ (in), 9 IN C- (in), 10 GND (power), 11 NC, 12 IN D- (in), 13 IN D+ (in), 14 OUT D (hiz), 15 ~{EN} (in), 16 NC, 17 OUT B (hiz), 18 IN B+ (in), 19 IN B- (in), 20 VCC (power)

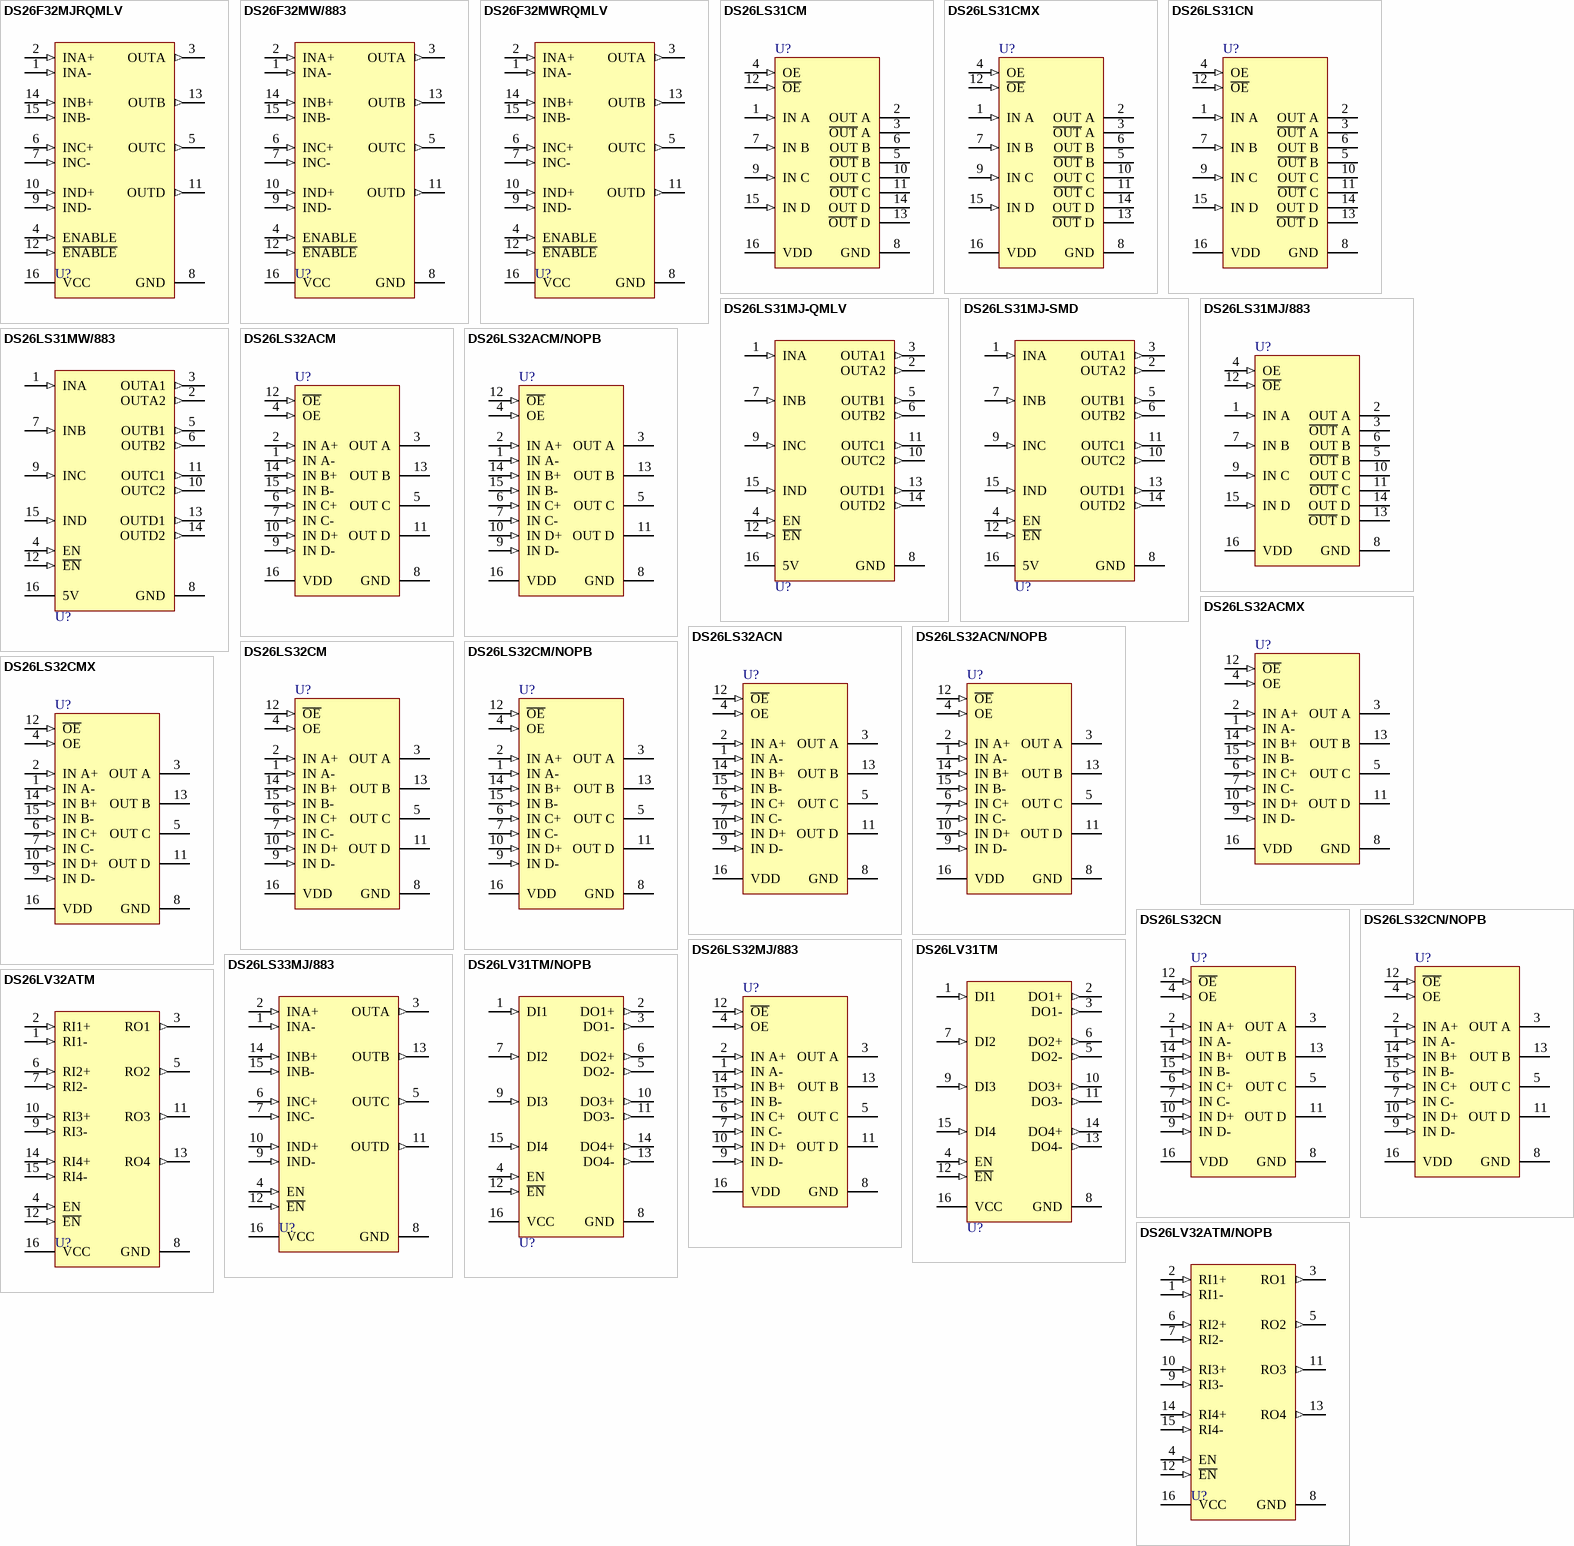
[diagram p19: symbols DS26F32MJRQMLV to DS26LV32ATM/NOPB]

## DS26F32MJRQMLV
designator U?
Quad Differential Line Receiver, 16-pin CerDIP; PartNumber: DS26F32MJRQMLV; Manufacturer: National Semiconductor; PackageTopMarking: NSZSSXXYYA*DS26F32MJRQV Q*5962R7802005VEA; PowerWise: N; CompType: Interface IC; High-Reliability: Y; Published: 4-Dec-2008; DatasheetVersion: May-1999; PackageVersion: revL, Sep-1993; PackageReference: J16A; Publisher: Altium Limited; PackageDescription: Cerdip (J), 16 Lead; RoHS: N; PinCount: 16; ComponentLink1Description: DS26F32M Datasheet; ComponentLink1URL: http://www.national.com/ds/DS/DS26F32MQML.pdf; ComponentLink2Description: DS26F32M Web Page; ComponentLink2URL: http://www.national.com/pf/DS/DS26F32M.html; ComponentLink3Description: J16A Package Page; ComponentLink3URL: http://www.national.com/packaging/folders/j16a.html
footprint J16A (DIP, 16-Leads, Row Spacing 7.62mm, Pitch 2.54mm, Body 19.56x6.73mm)
pins: 1 INA- (in), 2 INA+ (in), 3 OUTA (out), 4 ENABLE (in), 5 OUTC (out), 6 INC+ (in), 7 INC- (in), 8 GND (power), 9 IND- (in), 10 IND+ (in), 11 OUTD (out), 12 ~{ENABLE} (in), 13 OUTB (out), 14 INB+ (in), 15 INB- (in), 16 VCC (power)

## DS26F32MW/883
designator U?
Quad Differential Line Receiver, 16-pin CerPACK; PartNumber: DS26F32MW/883; Manufacturer: National Semiconductor; PackageTopMarking: NSZSSXXYYA*DS26F32MW*/883 5962-*7802005MFA*Q; PowerWise: N; CompType: Interface IC; High-Reliability: Y; Published: 29-May-2009; DatasheetVersion: May-1999; PackageVersion: revT, Jul-2005; PackageReference: W16A; Publisher: Altium Limited; PackageDescription: Cerpack, .390 x .250 x .074in Body, 16 Lead, .050in Pitch; RoHS: N; PinCount: 16; Code_JEDEC: MO-092-AC; ComponentLink1Description: DS26F32M Datasheet; ComponentLink1URL: http://www.national.com/ds/DS/DS26F32MQML.pdf; ComponentLink2Description: DS26F32M Web Page; ComponentLink2URL: http://www.national.com/pf/DS/DS26F32M.html; ComponentLink3Description: W16A Package Page; ComponentLink3URL: http://www.national.com/packaging/folders/w16a.html
footprint W16A (DFP; 16 Leads; Body 9.9 x 7.6 mm (LxW max); Pitch 1.27 mm)
pins: 1 INA- (in), 2 INA+ (in), 3 OUTA (out), 4 ENABLE (in), 5 OUTC (out), 6 INC+ (in), 7 INC- (in), 8 GND (power), 9 IND- (in), 10 IND+ (in), 11 OUTD (out), 12 ~{ENABLE} (in), 13 OUTB (out), 14 INB+ (in), 15 INB- (in), 16 VCC (power)

## DS26F32MWRQMLV
designator U?
Quad Differential Line Receiver, 16-pin CerPACK; PartNumber: DS26F32MWRQMLV; Manufacturer: National Semiconductor; PackageTopMarking: NSZSSXXYYA*DS26F32MWR*QV Q 5962R*7802005VFA; PowerWise: N; CompType: Interface IC; High-Reliability: Y; Published: 29-May-2009; DatasheetVersion: May-1999; PackageVersion: revT, Jul-2005; PackageReference: W16A; Publisher: Altium Limited; PackageDescription: Cerpack, .390 x .250 x .074in Body, 16 Lead, .050in Pitch; RoHS: N; PinCount: 16; Code_JEDEC: MO-092-AC; ComponentLink1Description: DS26F32M Datasheet; ComponentLink1URL: http://www.national.com/ds/DS/DS26F32MQML.pdf; ComponentLink2Description: DS26F32M Web Page; ComponentLink2URL: http://www.national.com/pf/DS/DS26F32M.html; ComponentLink3Description: W16A Package Page; ComponentLink3URL: http://www.national.com/packaging/folders/w16a.html
footprint W16A (DFP; 16 Leads; Body 9.9 x 7.6 mm (LxW max); Pitch 1.27 mm)
pins: 1 INA- (in), 2 INA+ (in), 3 OUTA (out), 4 ENABLE (in), 5 OUTC (out), 6 INC+ (in), 7 INC- (in), 8 GND (power), 9 IND- (in), 10 IND+ (in), 11 OUTD (out), 12 ~{ENABLE} (in), 13 OUTB (out), 14 INB+ (in), 15 INB- (in), 16 VCC (power)

## DS26LS31CM
designator U?
Quad High Speed Differential Line Driver, 16-pin Narrow SOIC; PartNumber: DS26LS31CM; Manufacturer: National Semiconductor; PackageTopMarking: NSUZXYTTE#*DS26LS31CM; PowerWise: N; CompType: Interface IC; Published: 4-Dec-2008; DatasheetVersion: Jun-1998; PackageVersion: revJ, Aug-1995; PackageReference: M16A; Publisher: Altium Limited; PackageDescription: Molded Package, SO, .150in Wide, 16 Lead; Supplier 1: Farnell; Supplier Part Number 1: 9487859; RoHS: N; PinCount: 16; Code_JEDEC: MS-012-AC; Code_IPC: SOIC127P600-16; ComponentLink1Description: DS26LS31C Datasheet; ComponentLink1URL: http://www.national.com/ds/DS/DS26LS31C.pdf; ComponentLink2Description: DS26LS31C Web Page; ComponentLink2URL: http://www.national.com/pf/DS/DS26LS31C.html; ComponentLink3Description: M16A Package Page; ComponentLink3URL: http://www.national.com/packaging/folders/m16a.html
footprint M16A_N (SOIC, 16-Leads, Body 9.9x3.9mm, Pitch 1.27mm, IPC Medium Density)
footprint M16A_L (SOIC, 16-Leads, Body 9.9x3.9mm, Pitch 1.27mm, IPC High Density)
footprint M16A_M (SOIC, 16-Leads, Body 9.9x3.9mm, Pitch 1.27mm, IPC Low Density)
pins: 1 IN A (in), 2 OUT A (hiz), 3 ~{OUT} A (hiz), 4 OE (in), 5 ~{OUT} B (hiz), 6 OUT B (hiz), 7 IN B (in), 8 GND (power), 9 IN C (in), 10 OUT C (hiz), 11 ~{OUT} C (hiz), 12 ~{OE} (in), 13 ~{OUT} D (hiz), 14 OUT D (hiz), 15 IN D (in), 16 VDD (power)

## DS26LS31CMX
designator U?
Quad High Speed Differential Line Drivers, 16-pin Narrow SOIC; PartNumber: DS26LS31CMX; Manufacturer: National Semiconductor; PackageTopMarking: NSUZXYTTE#*DS26LS31CM; PowerWise: N; CompType: Interface IC; Published: 1-Mar-2010; DatasheetVersion: Jun-1998; PackageVersion: revJ, Aug-1995; PackageReference: M16A; Publisher: Altium Limited; PackageDescription: Molded Package, SO, .150in Wide, 16 Lead; RoHS: N; PinCount: 16; Code_JEDEC: MS-012-AC; Code_IPC: SOIC127P600-16; ComponentLink1Description: DS26LS31C Datasheet; ComponentLink1URL: http://www.national.com/ds/DS/DS26LS31C.pdf; ComponentLink2Description: DS26LS31C Web Page; ComponentLink2URL: http://www.national.com/pf/DS/DS26LS31C.html; ComponentLink3Description: M16A Package Page; ComponentLink3URL: http://www.national.com/packaging/folders/m16a.html
footprint M16A_N (SOIC, 16-Leads, Body 9.9x3.9mm, Pitch 1.27mm, IPC Medium Density)
footprint M16A_L (SOIC, 16-Leads, Body 9.9x3.9mm, Pitch 1.27mm, IPC High Density)
footprint M16A_M (SOIC, 16-Leads, Body 9.9x3.9mm, Pitch 1.27mm, IPC Low Density)
pins: 1 IN A (in), 2 OUT A (hiz), 3 ~{OUT} A (hiz), 4 OE (in), 5 ~{OUT} B (hiz), 6 OUT B (hiz), 7 IN B (in), 8 GND (power), 9 IN C (in), 10 OUT C (hiz), 11 ~{OUT} C (hiz), 12 ~{OE} (in), 13 ~{OUT} D (hiz), 14 OUT D (hiz), 15 IN D (in), 16 VDD (power)

## DS26LS31CN
designator U?
Quad High Speed Differential Line Driver, 16-pin MDIP; PartNumber: DS26LS31CN; Manufacturer: National Semiconductor; PackageTopMarking: NSUZXYYTTE#*DS26LS31CN*AM26LS31PC; PowerWise: N; CompType: Interface IC; Published: 4-Dec-2008; DatasheetVersion: Jun-1998; PackageVersion: revG, May-2006; PackageReference: N16E; Publisher: Altium Limited; PackageDescription: MDIP, .750 x .250 x .130in, 16 Lead, .100in Pitch; Supplier 1: Farnell; Supplier Part Number 1: 9487867; RoHS: N; PinCount: 16; Code_JEDEC: MS-001-BB; ComponentLink1Description: DS26LS31C Datasheet; ComponentLink1URL: http://www.national.com/ds/DS/DS26LS31C.pdf; ComponentLink2Description: DS26LS31C Web Page; ComponentLink2URL: http://www.national.com/pf/DS/DS26LS31C.html; ComponentLink3Description: N16E Package Page; ComponentLink3URL: http://www.national.com/packaging/folders/n16e.html
footprint N16E (DIP, 16-Leads, Row Spacing 7.62mm, Pitch 2.54mm, Body 19.3x6.35mm)
pins: 1 IN A (in), 2 OUT A (hiz), 3 ~{OUT} A (hiz), 4 OE (in), 5 ~{OUT} B (hiz), 6 OUT B (hiz), 7 IN B (in), 8 GND (power), 9 IN C (in), 10 OUT C (hiz), 11 ~{OUT} C (hiz), 12 ~{OE} (in), 13 ~{OUT} D (hiz), 14 OUT D (hiz), 15 IN D (in), 16 VDD (power)